# Altium footprint library SWITCH_DIP.PCBLIB: 12 footprints
Each footprint in its own frame and in the unit in brackets; x right, y up, seen from the top. Pads: shape width x height; smd on the part's side, far side on the other; paste and mask are expansions set on the pad; w line width, h text height; cw(c..) or ccw(c..) is an arc to the next point about the centre after c.
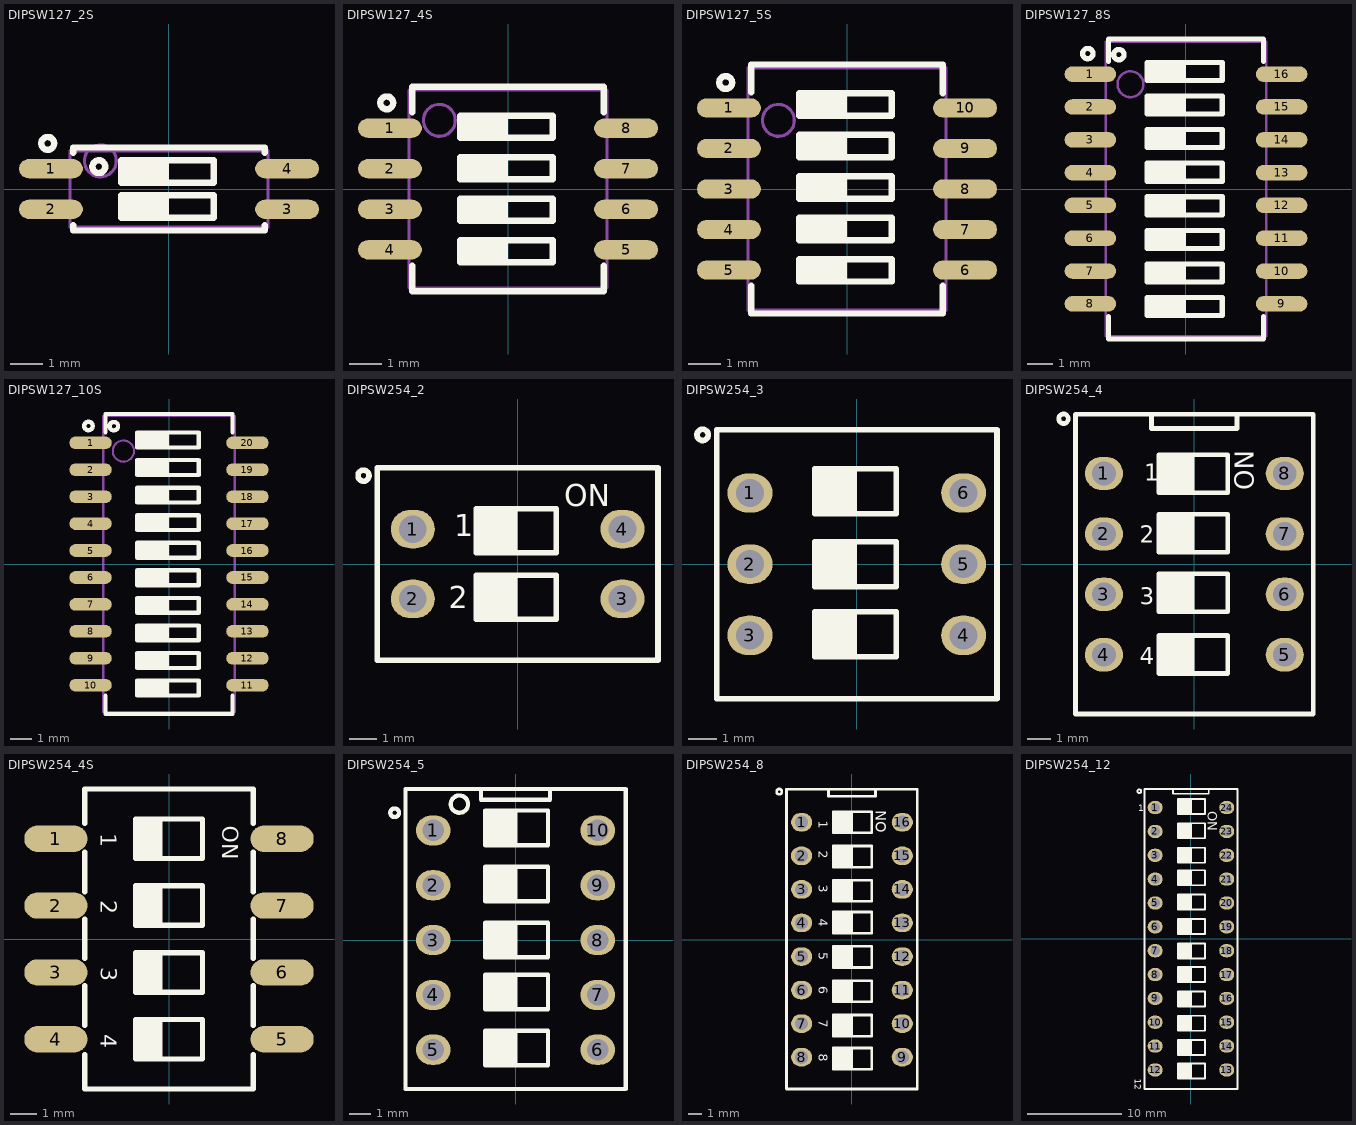
[diagram p0: the footprints below, top view; thin cyan lines are the x and y axes]

## DIPSW127_2S [mm] "SWITCH DIP 2POS, SMD, 1.27mm, 6.1X2.4mm www.ck-components.com, TDA series"
height 2.3
pads (4):
  oval 2x0.6 smd: 1(-3.7,0.635) 2(-3.7,-0.635) 3(3.7,-0.635) 4(3.7,0.635)
TopOverlay:
  circle w0.2: c-2.2,0.7 r0.2
  circle w0.2: c-3.8,1.43 r0.2
  rectangle: -1.5,0.2 0,0.8
  rectangle: -1.5,-0.8 0,-0.2
  lines w0.2: -3,-1.13 -3,-1.3 3,-1.3 3,-1.13 ; -3,1.13 -3,1.3 3,1.3 3,1.13 ; -1.5,-0.9 1.4,-0.9 1.4,-0.2 -1.5,-0.2 -1.5,-0.9 ; -1.5,0.2 -1.5,0.9 1.4,0.9 1.4,0.2 -1.5,0.2
Mechanical13:
  circle w0.1: c-2.15,0.88 r0.5
  lines w0.1: -3.1,-1.2 -3.1,1.2 3.1,1.2 3.1,-1.2 -3.1,-1.2
3D body "218-2polesLP.STP": height 2.57, standoff -0.05, extent -4.22,-1.855 4.22,1.855

## DIPSW127_4S [mm] "SWITCH DIP 4POS, SMD, 1.27mm, 6.1X6.2mm www.ck-components.com, TDA series"
height 2.3
pads (8):
  oval 2x0.6 smd: 1(-3.7,1.905) 2(-3.7,0.635) 3(-3.7,-0.635) 4(-3.7,-1.905) 5(3.7,-1.905) 6(3.7,-0.635) 7(3.7,0.635) 8(3.7,1.905)
TopOverlay:
  circle w0.2: c-3.8,2.7 r0.2
  rectangle: -1.5,1.7 0,2.3
  rectangle: -1.5,0.4 0,1
  rectangle: -1.5,-0.9 0,-0.3
  rectangle: -1.5,-2.2 0,-1.6
  lines w0.2: -3,-2.4 -3,-3.2 3,-3.2 3,-2.4 ; -3,2.4 -3,3.2 3,3.2 3,2.4 ; -1.5,-2.3 1.4,-2.3 1.4,-1.6 -1.5,-1.6 -1.5,-2.3 ; -1.5,-1 1.4,-1 1.4,-0.3 -1.5,-0.3 -1.5,-1 ; -1.5,0.3 1.4,0.3 1.4,1 -1.5,1 -1.5,0.3 ; -1.5,1.6 1.4,1.6 1.4,2.3 -1.5,2.3 -1.5,1.6
Mechanical13:
  circle w0.1: c-2.15,2.15 r0.5
  lines w0.1: -3.1,-3.1 3.1,-3.1 3.1,3.1 -3.1,3.1 -3.1,-3.1
3D body "218-4polesLP.STP": height 2.57, standoff -0.05, extent -4.22,-3.125 4.22,3.125

## DIPSW127_5S [mm] "SWITCH DIP 5POS, SMD, 1.27mm, 6.1X7.5mm www.ck-components.com, TDA series"
height 2.3
pads (10):
  oval 2x0.6 smd: 1(-3.7,2.54) 2(-3.7,1.27) 3(-3.7,0) 4(-3.7,-1.27) 5(-3.7,-2.54) 6(3.7,-2.54) 7(3.7,-1.27) 8(3.7,0) 9(3.7,1.27) 10(3.7,2.54)
TopOverlay:
  circle w0.2: c-3.8,3.335 r0.2
  rectangle: -1.5,-1.5 0,-0.9
  rectangle: -1.5,-0.2 0,0.4
  rectangle: -1.5,1.1 0,1.7
  rectangle: -1.5,2.4 0,3
  rectangle: -1.5,-2.8 0,-2.2
  lines w0.2: -3,-3.035 -3,-3.9 3,-3.9 3,-3.035 ; -3,3.035 -3,3.9 3,3.9 3,3 ; -1.5,-2.9 1.4,-2.9 1.4,-2.2 -1.5,-2.2 -1.5,-2.9 ; -1.5,-1.6 -1.5,-0.9 1.4,-0.9 1.4,-1.6 -1.5,-1.6 ; -1.5,-0.3 -1.5,0.4 1.4,0.4 1.4,-0.3 -1.5,-0.3 ; -1.5,1 -1.5,1.7 1.4,1.7 1.4,1 -1.5,1 ; -1.5,2.3 -1.5,3 1.4,3 1.4,2.3 -1.5,2.3
Mechanical13:
  circle w0.1: c-2.15,2.15 r0.5
  lines w0.1: -3.1,-3.8 3.1,-3.8 3.1,3.8 -3.1,3.8 -3.1,-3.8
3D body: height 2.3, standoff 0.1, extent -3.1,-3.8 3.1,3.8

## DIPSW127_8S [mm] "SWITCH DIP 8POS, SMD, 1.27mm, 6.1X11.3mm www.ck-components.com, TDA series"
height 2.3
pads (16):
  oval 2x0.6 smd: 1(-3.7,4.445) 2(-3.7,3.175) 3(-3.7,1.905) 4(-3.7,0.635) 5(-3.7,-0.635) 6(-3.7,-1.905) 7(-3.7,-3.175) 8(-3.7,-4.445) 9(3.7,-4.445) 10(3.7,-3.175) 11(3.7,-1.905) 12(3.7,-0.635) 13(3.7,0.635) 14(3.7,1.905) 15(3.7,3.175) 16(3.7,4.445)
TopOverlay:
  circle w0.2: c-3.8,5.24 r0.2
  circle w0.2: c-2.6,5.2 r0.2
  rectangle: -1.5,-4.8 0,-4.2
  rectangle: -1.5,-3.5 0,-2.9
  rectangle: -1.5,-2.2 0,-1.6
  rectangle: -1.5,-0.9 0,-0.3
  rectangle: -1.5,0.4 0,1
  rectangle: -1.5,1.7 0,2.3
  rectangle: -1.5,3 0,3.6
  rectangle: -1.5,4.3 0,4.9
  lines w0.2: -3,-4.94 -3,-5.805 3,-5.805 3,-4.94 ; -3,4.94 -3,5.805 3,5.805 3,4.94 ; -1.5,-4.9 -1.5,-4.2 1.4,-4.2 1.4,-4.9 -1.5,-4.9 ; -1.5,-3.6 -1.5,-2.9 1.4,-2.9 1.4,-3.6 -1.5,-3.6 ; -1.5,-2.3 -1.5,-1.6 1.4,-1.6 1.4,-2.3 -1.5,-2.3 ; -1.5,-1 -1.5,-0.3 1.4,-0.3 1.4,-1 -1.5,-1 ; -1.5,0.3 -1.5,1 1.4,1 1.4,0.3 -1.5,0.3 ; -1.5,1.6 -1.5,2.3 1.4,2.3 1.4,1.6 -1.5,1.6 ; -1.5,2.9 -1.5,3.6 1.4,3.6 1.4,2.9 -1.5,2.9 ; -1.5,4.2 -1.5,4.9 1.4,4.9 1.4,4.2 -1.5,4.2
Mechanical13:
  circle w0.1: c-2.15,4.055 r0.5
  lines w0.1: -3.1,-5.705 -3.1,5.705 3.1,5.705 3.1,-5.705 -3.1,-5.705
3D body "218-8polesLP.STP": height 2.57, standoff -0.05, extent -4.22,-5.665 4.22,5.665

## DIPSW127_10S [mm] "SWITCH DIP 10POS, SMD, 1.27mm, 6.1X13.8mm"
height 2.3
pads (20):
  oval 2x0.6 smd: 1(-3.7,5.715) 2(-3.7,4.445) 3(-3.7,3.175) 4(-3.7,1.905) 5(-3.7,0.635) 6(-3.7,-0.635) 7(-3.7,-1.905) 8(-3.7,-3.175) 9(-3.7,-4.445) 10(-3.7,-5.715) 11(3.7,-5.715) 12(3.7,-4.445) 13(3.7,-3.175) 14(3.7,-1.905) 15(3.7,-0.635) 16(3.7,0.635) 17(3.7,1.905) 18(3.7,3.175) 19(3.7,4.445) 20(3.7,5.715)
TopOverlay:
  circle w0.2: c-3.8,6.51 r0.2
  circle w0.2: c-2.6,6.5 r0.2
  rectangle: -1.5,5.6 0,6.2
  rectangle: -1.5,4.3 0,4.9
  rectangle: -1.5,3 0,3.6
  rectangle: -1.5,1.7 0,2.3
  rectangle: -1.5,0.4 0,1
  rectangle: -1.5,-0.9 0,-0.3
  rectangle: -1.5,-2.2 0,-1.6
  rectangle: -1.5,-3.5 0,-2.9
  rectangle: -1.5,-4.8 0,-4.2
  rectangle: -1.5,-6.1 0,-5.5
  lines w0.2: -3,-6.21 -3,-7.075 3,-7.075 3,-6.21 ; -3,6.21 -3,7.075 3,7.075 3,6.21 ; -1.5,-6.2 1.4,-6.2 1.4,-5.5 -1.5,-5.5 -1.5,-6.2 ; -1.5,-4.9 1.4,-4.9 1.4,-4.2 -1.5,-4.2 -1.5,-4.9 ; -1.5,-3.6 1.4,-3.6 1.4,-2.9 -1.5,-2.9 -1.5,-3.6 ; -1.5,-2.3 1.4,-2.3 1.4,-1.6 -1.5,-1.6 -1.5,-2.3 ; -1.5,-1 1.4,-1 1.4,-0.3 -1.5,-0.3 -1.5,-1 ; -1.5,0.3 1.4,0.3 1.4,1 -1.5,1 -1.5,0.3 ; -1.5,1.6 1.4,1.6 1.4,2.3 -1.5,2.3 -1.5,1.6 ; -1.5,2.9 1.4,2.9 1.4,3.6 -1.5,3.6 -1.5,2.9 ; -1.5,4.2 1.4,4.2 1.4,4.9 -1.5,4.9 -1.5,4.2 ; -1.5,5.5 1.4,5.5 1.4,6.2 -1.5,6.2 -1.5,5.5
Mechanical13:
  circle w0.1: c-2.15,5.325 r0.5
  lines w0.1: -3.1,-6.975 3.1,-6.975 3.1,6.975 -3.1,6.975 -3.1,-6.975
3D body "218-10polesLP.STP": height 2.57, standoff -0.05, extent -4.22,-6.935 4.22,6.935

## DIPSW254_2 [mm] "SWITCH DIP 2POS, THD, 2.54mm, SD02"
height 6.5
pads (4):
  oval 1.6x1.4 / inner round 1.4 / far side oval 2.2x1.4 hole 1: 1(-3.81,1.27) 2(-3.81,-1.27) 3(3.81,-1.27) 4(3.81,1.27)
TopOverlay:
  circle w0.2: c-5.6,3.21 r0.2
  rectangle: -1.5,0.4 0,2
  rectangle: -1.5,-2 0,-0.4
  lines w0.2: -5.1,-3.5 -5.1,3.5 5.1,3.5 5.1,-3.5 -5.1,-3.5 ; -1.5,-2 1.4,-2 1.4,-0.4 -1.5,-0.4 -1.5,-2 ; -1.5,0.4 1.4,0.4 1.4,2 -1.5,2 -1.5,0.4
  text "2" at -2.5,-1.6 h0.8
  text "1" at -2.3,1 h0.8
  text "ON" at 1.7,2.1 h0.8
3D body "SSGM120100.STEP": height 5, standoff -3, extent -4.704,-3.45 4.704,3.45

## DIPSW254_3 [mm] "SWITCH DIP 3POS, THD, 2.54mm, SD03"
pads (6):
  oval 1.6x1.4 / inner round 1.4 / far side oval 2.2x1.4 hole 1: 1(-3.81,2.54) 2(-3.81,0) 3(-3.81,-2.54) 4(3.81,-2.54) 5(3.81,0) 6(3.81,2.54)
TopOverlay:
  circle w0.2: c-5.5,4.61 r0.2
  rectangle: -1.5,1.8 0,3.4
  rectangle: -1.5,-0.8 0,0.8
  rectangle: -1.5,-3.3 0,-1.7
  lines w0.2: -5,-4.8 -5,4.8 5,4.8 5,-4.8 -5,-4.8 ; -1.5,-3.3 1.4,-3.3 1.4,-1.7 -1.5,-1.7 -1.5,-3.3 ; -1.5,-0.8 1.4,-0.8 1.4,0.8 -1.5,0.8 -1.5,-0.8 ; -1.5,1.8 1.4,1.8 1.4,3.4 -1.5,3.4 -1.5,1.8
3D body "SSGM130100.STEP": height 5.3, standoff -2.7, extent -4.704,-4.7 4.704,4.7

## DIPSW254_4 [mm] "SWITCH DIP 4POS, THD, 2.54mm, YL04"
height 6.5
pads (8):
  oval 1.6x1.4 / inner round 1.4 / far side oval 2.2x1.4 hole 1 mask+0.1: 1(-3.8,3.81) 2(-3.8,1.27) 3(-3.8,-1.27) 4(-3.8,-3.81) 5(3.8,-3.81) 6(3.8,-1.27) 7(3.8,1.27) 8(3.8,3.81)
TopOverlay:
  circle w0.2: c-5.5,6.11 r0.2
  rectangle: -1.5,-4.6 0,-3
  rectangle: -1.5,-2 0,-0.4
  rectangle: -1.5,0.5 0,2.1
  rectangle: -1.5,3 0,4.6
  lines w0.2: -1.8,6.3 -1.8,5.7 1.79,5.7 1.79,6.3 ; -5,-6.3 5,-6.3 5,6.3 -5,6.3 -5,-6.3 ; -1.5,-4.6 1.4,-4.6 1.4,-3 -1.5,-3 -1.5,-4.6 ; -1.5,-2 1.4,-2 1.4,-0.4 -1.5,-0.4 -1.5,-2 ; -1.5,0.5 1.4,0.5 1.4,2.1 -1.5,2.1 -1.5,0.5 ; -1.5,3 -1.5,4.6 1.4,4.6 1.4,3 -1.5,3
  text "4" at -2.3,-4.2 h0.7
  text "3" at -2.3,-1.7 h0.7
  text "2" at -2.3,0.9 h0.7
  text "1" at -2.1,3.5 h0.7
  text "ON" at 2.5,3.1 h0.8
3D body "User Library-DIP SWITCH 4 POS CTS 206.step": height 8.14, standoff -3.5, extent -4.89,-6.17 4.89,6.17

## DIPSW254_4S [mm] "SWITCH DIP 4POS, SMD, 2.54mm, CTS-219-04"
pads (8):
  oval 2.4x1 smd: 1(-4.3,3.81) 2(-4.3,1.27) 3(-4.3,-1.27) 4(-4.3,-3.81) 5(4.3,-3.81) 6(4.3,-1.27) 7(4.3,1.27) 8(4.3,3.81)
TopOverlay:
  region: -1.27,-3.06 -1.27,-4.56 -0.254,-4.56 -0.254,-3.06
  region: -1.27,-0.52 -1.27,-2.02 -0.254,-2.02 -0.254,-0.52
  region: -1.27,2.02 -1.27,0.52 -0.254,0.52 -0.254,2.02
  region: -1.27,4.56 -1.27,3.06 -0.254,3.06 -0.254,4.56
  lines w0.2: -3.2,-4.4 -3.2,-5.7 3.2,-5.7 3.2,-4.4 ; -3.2,-3.28 -3.2,-1.78 ; -3.2,-0.74 -3.2,0.76 ; -3.2,1.8 -3.2,3.3 ; -3.2,4.4 -3.2,5.7 3.2,5.7 3.2,4.4 ; 3.2,-3.28 3.2,-1.78 ; 3.2,-0.74 3.2,0.76 ; 3.2,1.8 3.2,3.3 ; -1.27,-4.56 1.27,-4.56 1.27,-3.06 -1.27,-3.06 -1.27,-4.56 ; -1.27,-2.02 1.27,-2.02 1.27,-0.52 -1.27,-0.52 -1.27,-2.02 ; -1.27,0.52 1.27,0.52 1.27,2.02 -1.27,2.02 -1.27,0.52 ; -1.27,3.06 1.27,3.06 1.27,4.56 -1.27,4.56 -1.27,3.06
  text "4" at -2.596,-3.61 h0.61
  text "3" at -2.596,-1.07 h0.61
  text "2" at -2.596,1.47 h0.61
  text "1" at -2.596,4.01 h0.61
  text "ON" at 2.021,4.31 h0.61
3D body "User Library-DM04V.step": height 4.52, standoff 0, extent -4.89,-5.55 4.89,5.55

## DIPSW254_5 [mm] "SWITCH DIP 5POS, THD, 2.54mm,"
pads (10):
  oval 1.6x1.4 / inner round 1.4 / far side oval 2.2x1.4 hole 1: 1(-3.81,5.08) 2(-3.81,2.54) 3(-3.81,0) 4(-3.81,-2.54) 5(-3.81,-5.08) 6(3.81,-5.08) 7(3.81,-2.54) 8(3.81,0) 9(3.81,2.54) 10(3.81,5.08)
TopOverlay:
  circle w0.2: c-2.6,6.3 r0.4
  circle w0.2: c-5.6,5.9 r0.2
  rectangle: -1.4,4.4 0.1,6
  rectangle: -1.4,1.8 0.1,3.4
  rectangle: -1.4,-0.8 0.1,0.8
  rectangle: -1.4,-3.2 0.1,-1.6
  rectangle: -1.4,-5.8 0.1,-4.2
  lines w0.2: -1.6,7 -1.6,6.5 1.6,6.5 1.6,7 ; -5.1,-6.9 -5.1,7 5.1,7 5.1,-6.9 -5.1,-6.9 ; -1.4,-5.8 -1.4,-4.2 1.5,-4.2 1.5,-5.8 -1.4,-5.8 ; -1.4,-3.2 -1.4,-1.6 1.5,-1.6 1.5,-3.2 -1.4,-3.2 ; -1.4,-0.8 -1.4,0.8 1.5,0.8 1.5,-0.8 -1.4,-0.8 ; -1.4,1.8 -1.4,3.4 1.5,3.4 1.5,1.8 -1.4,1.8 ; -1.4,4.4 -1.4,6 1.5,6 1.5,4.4 -1.4,4.4
3D body "User Library-DIP-10.step": height 7, standoff -3.7, extent -4.95,-6.8 4.95,6.9

## DIPSW254_8 [mm] "SWITCH DIP 8POS, THD, 2.54mm,"
height 6.5
pads (16):
  oval 1.6x1.4 / inner round 1.4 / far side oval 2.2x1.4 hole 1: 1(-3.805,8.89) 2(-3.815,6.35) 3(-3.805,3.81) 4(-3.805,1.27) 5(-3.805,-1.27) 6(-3.805,-3.81) 7(-3.805,-6.35) 8(-3.805,-8.89) 9(3.815,-8.89) 10(3.815,-6.35) 11(3.815,-3.81) 12(3.815,-1.27) 13(3.815,1.27) 14(3.815,3.81) 15(3.815,6.35) 16(3.815,8.89)
TopOverlay:
  circle w0.2: c-5.5,11.21 r0.2
  rectangle: -1.4,8.1 0.1,9.7
  rectangle: -1.4,5.5 0.1,7.1
  rectangle: -1.4,2.9 0.1,4.5
  rectangle: -1.4,0.5 0.1,2.1
  rectangle: -1.4,-2.1 0.1,-0.5
  rectangle: -1.4,-4.7 0.1,-3.1
  rectangle: -1.4,-7.3 0.1,-5.7
  rectangle: -1.4,-9.8 0.1,-8.2
  lines w0.2: -1.773,11.371 -1.773,10.863 1.783,10.863 1.783,11.371 ; -4.948,-11.3 4.958,-11.3 4.958,11.4 -4.948,11.4 -4.948,-11.3 ; -1.4,-9.8 -1.4,-8.2 1.5,-8.2 1.5,-9.8 -1.4,-9.8 ; -1.4,-7.3 -1.4,-5.7 1.5,-5.7 1.5,-7.3 -1.4,-7.3 ; -1.4,-4.7 -1.4,-3.1 1.5,-3.1 1.5,-4.7 -1.4,-4.7 ; -1.4,-2.1 -1.4,-0.5 1.5,-0.5 1.5,-2.1 -1.4,-2.1 ; -1.4,0.5 -1.4,2.1 1.5,2.1 1.5,0.5 -1.4,0.5 ; -1.4,2.9 -1.4,4.5 1.5,4.5 1.5,2.9 -1.4,2.9 ; -1.4,5.5 -1.4,7.1 1.5,7.1 1.5,5.5 -1.4,5.5 ; -1.4,8.1 -1.4,9.7 1.5,9.7 1.5,8.1 -1.4,8.1
  text "ON" at 2.6,8.1 h0.8
  text "1" at -2.51,8.991 h0.7
  text "2" at -2.51,6.727 h0.7
  text "3" at -2.51,4.167 h0.7
  text "4" at -2.51,1.606 h0.7
  text "5" at -2.51,-0.954 h0.7
  text "6" at -2.51,-3.515 h0.7
  text "7" at -2.51,-6.075 h0.7
  text "8" at -2.51,-8.636 h0.7
3D body "SW3dPS-DIP SWITCH 8 POS CTS 206.STEP": height 8.25, standoff -3.5, extent -4.9,-11.21 4.88,11.29

## DIPSW254_12 [mm] "SWITCH DIP 12POS, THD, 2.54mm,"
pads (24):
  oval 1.6x1.4 / inner round 1.4 / far side oval 2.2x1.4 hole 1: 1(-3.81,13.97) 2(-3.81,11.43) 3(-3.81,8.89) 4(-3.81,6.35) 5(-3.81,3.81) 6(-3.81,1.27) 7(-3.81,-1.27) 8(-3.81,-3.81) 9(-3.81,-6.35) 10(-3.81,-8.89) 11(-3.81,-11.43) 12(-3.81,-13.97) 13(3.81,-13.97) 14(3.81,-11.43) 15(3.81,-8.89) 16(3.81,-6.35) 17(3.81,-3.81) 18(3.81,-1.27) 19(3.81,1.27) 20(3.81,3.81) 21(3.81,6.35) 22(3.81,8.89) 23(3.81,11.43) 24(3.81,13.97)
TopOverlay:
  circle w0.2: c-5.5,15.71 r0.2
  rectangle: -1.4,13.3 0.1,14.9
  rectangle: -1.4,10.7 0.1,12.3
  rectangle: -1.4,8.1 0.1,9.7
  rectangle: -1.4,5.7 0.1,7.3
  rectangle: -1.4,3.1 0.1,4.7
  rectangle: -1.4,0.5 0.1,2.1
  rectangle: -1.4,-2.1 0.1,-0.5
  rectangle: -1.4,-4.6 0.1,-3
  rectangle: -1.4,-14.9 0.1,-13.3
  rectangle: -1.4,-12.4 0.1,-10.8
  rectangle: -1.4,-9.8 0.1,-8.2
  rectangle: -1.4,-7.2 0.1,-5.6
  lines w0.2: -1.91,15.951 -1.91,15.443 1.9,15.443 1.9,15.951 ; -4.953,-16.002 4.953,-16.002 4.953,15.951 -4.953,15.951 -4.953,-16.002 ; -1.4,-14.9 1.5,-14.9 1.5,-13.3 -1.4,-13.3 -1.4,-14.9 ; -1.4,-12.4 1.5,-12.4 1.5,-10.8 -1.4,-10.8 -1.4,-12.4 ; -1.4,-9.8 1.5,-9.8 1.5,-8.2 -1.4,-8.2 -1.4,-9.8 ; -1.4,-7.2 1.5,-7.2 1.5,-5.6 -1.4,-5.6 -1.4,-7.2 ; -1.4,-4.6 -1.4,-3 1.5,-3 1.5,-4.6 -1.4,-4.6 ; -1.4,-2.1 -1.4,-0.5 1.5,-0.5 1.5,-2.1 -1.4,-2.1 ; -1.4,0.5 -1.4,2.1 1.5,2.1 1.5,0.5 -1.4,0.5 ; -1.4,3.1 -1.4,4.7 1.5,4.7 1.5,3.1 -1.4,3.1 ; -1.4,5.7 -1.4,7.3 1.5,7.3 1.5,5.7 -1.4,5.7 ; -1.4,8.1 -1.4,9.7 1.5,9.7 1.5,8.1 -1.4,8.1 ; -1.4,10.7 -1.4,12.3 1.5,12.3 1.5,10.7 -1.4,10.7 ; -1.4,13.3 -1.4,14.9 1.5,14.9 1.5,13.3 -1.4,13.3
  text "1" at -5.61,13.57 h0.7
  text "12" at -6.01,-14.93 h0.7
  text "ON" at 1.8,13.6 h1
Mechanical1:
  circle w0.025: c3.81,13.97 r0.254
  circle w0.025: c3.81,11.43 r0.254
  circle w0.025: c3.81,8.89 r0.254
  circle w0.025: c3.81,6.35 r0.254
  circle w0.025: c-3.81,6.35 r0.254
  circle w0.025: c-3.81,8.89 r0.254
  circle w0.025: c-3.82,11.43 r0.254
  circle w0.025: c-3.81,13.97 r0.254
  circle w0.025: c-3.81,3.81 r0.254
  circle w0.025: c3.81,3.81 r0.254
  circle w0.025: c3.81,1.27 r0.254
  circle w0.025: c-3.81,1.27 r0.254
  circle w0.025: c-3.81,-1.27 r0.254
  circle w0.025: c3.81,-3.81 r0.254
  circle w0.025: c-3.81,-3.81 r0.254
3D body: height 5.59, standoff 0, extent -1.448,-13.208 1.443,-12.192
3D body: height 5.08, standoff 0.25, extent -0.737,-14.732 1.443,-13.208
3D body: height 6.35, standoff 0.25, extent -1.448,-14.732 -0.737,-13.208
3D body: height 5.59, standoff 0, extent -1.448,-10.668 1.443,-9.652
3D body: height 5.08, standoff 0.25, extent -0.737,-12.192 1.443,-10.668
3D body: height 6.35, standoff 0.25, extent -1.448,-12.192 -0.737,-10.668
3D body: height 5.59, standoff 0, extent -1.448,-8.128 1.443,-7.112
3D body: height 5.08, standoff 0.25, extent -0.737,-9.652 1.443,-8.128
3D body: height 6.35, standoff 0.25, extent -1.448,-9.652 -0.737,-8.128
3D body: height 5.59, standoff 0, extent -1.448,-5.588 1.443,-4.572
3D body: height 5.08, standoff 0.25, extent -0.737,-7.112 1.443,-5.588
3D body: height 6.35, standoff 0.25, extent -1.448,-7.112 -0.737,-5.588
3D body: height 5.59, standoff 0, extent -1.448,-3.048 1.443,-2.032
3D body: height 5.08, standoff 0.25, extent -0.737,-4.572 1.443,-3.048
3D body: height 6.35, standoff 0.25, extent -1.448,-4.572 -0.737,-3.048
3D body: height 5.59, standoff 0, extent -1.448,-0.508 1.443,0.508
3D body: height 5.08, standoff 0.25, extent -0.737,-2.032 1.443,-0.508
3D body: height 6.35, standoff 0.25, extent -1.448,-2.032 -0.737,-0.508
3D body: height 5.59, standoff 0, extent -1.448,2.032 1.443,3.048
3D body: height 5.08, standoff 0.25, extent -0.737,0.508 1.443,2.032
3D body: height 6.35, standoff 0.25, extent -1.448,0.508 -0.737,2.032
3D body: height 5.59, standoff 0, extent -1.448,4.572 1.443,5.588
3D body: height 5.08, standoff 0.25, extent -0.737,3.048 1.443,4.572
3D body: height 6.35, standoff 0.25, extent -1.448,3.048 -0.737,4.572
3D body: height 6.35, standoff 0.25, extent -1.448,10.668 -0.737,12.192
3D body: height 5.08, standoff 0.25, extent -0.737,10.668 1.443,12.192
3D body: height 5.59, standoff 0, extent -1.448,9.652 1.443,10.668
3D body: height 5.59, standoff 0, extent -1.448,7.112 1.443,8.128
3D body: height 5.59, standoff 0, extent -1.448,12.192 1.443,13.208
3D body: height 6.35, standoff 0.25, extent -1.448,5.588 -0.737,7.112
3D body: height 5.08, standoff 0.25, extent -0.737,5.588 1.443,7.112
3D body: height 6.35, standoff 0.25, extent -1.448,8.128 -0.737,9.652
3D body: height 5.08, standoff 0.25, extent -0.737,8.128 1.443,9.652
3D body: height 5.08, standoff 0.25, extent -0.737,13.208 1.443,14.732
3D body: height 6.35, standoff 0.25, extent -1.448,13.208 -0.737,14.732
3D body: height 5.59, standoff 0.25, extent 2.205,11.605 3.757,13.171
3D body: height 5.59, standoff 0.03, extent 2.28,13.716 3.697,14.524
3D body: height 5.59, standoff 0.25, extent 2.195,13.308 3.769,14.926
3D body: height 5.59, standoff 0, extent -1.448,14.732 1.443,15.443
3D body: height 0.25, standoff 0.05, extent -4.953,-16.002 4.953,15.951
3D body: height 5.59, standoff 0, extent -4.953,-16.002 4.953,15.951
3D body: height 3.81, standoff 0, extent -1.91,15.443 1.9,15.951
3D body: height 0.76, standoff 0, extent -4.063,6.097 -3.557,6.603
3D body: height 0.76, standoff 0, extent -4.063,8.637 -3.557,9.143
3D body: height 0.76, standoff 0, extent -4.073,11.177 -3.567,11.683
3D body: height 0.76, standoff 0, extent -4.063,13.717 -3.557,14.223
3D body: height 0.76, standoff 0, extent 3.557,6.097 4.063,6.603
3D body: height 0.76, standoff 0, extent 3.557,8.637 4.063,9.143
3D body: height 0.76, standoff 0, extent 3.557,11.177 4.063,11.683
3D body: height 0.76, standoff 0, extent 3.557,13.717 4.063,14.223
3D body: height 0.76, standoff 0, extent 3.557,-1.523 4.063,-1.017
3D body: height 0.76, standoff 0, extent 3.557,-4.063 4.063,-3.557
3D body: height 0.76, standoff 0, extent 3.557,1.017 4.063,1.523
3D body: height 0.76, standoff 0, extent -4.063,3.557 -3.557,4.063
3D body: height 0.76, standoff 0, extent -4.063,1.017 -3.557,1.523
3D body: height 0.76, standoff 0, extent -4.063,-1.523 -3.557,-1.017
3D body: height 0.76, standoff 0, extent -4.063,-4.063 -3.557,-3.557
3D body: height 0.76, standoff 0, extent -4.063,-6.603 -3.557,-6.097
3D body: height 0.76, standoff 0, extent -4.063,-9.143 -3.557,-8.637
3D body: height 0.76, standoff 0, extent -4.063,-11.683 -3.557,-11.177
3D body: height 0.76, standoff 0, extent -4.063,-14.223 -3.557,-13.717
3D body: height 0.76, standoff 0, extent 3.557,-14.223 4.063,-13.717
3D body: height 0.76, standoff 0, extent 3.557,-11.683 4.063,-11.177
3D body: height 0.76, standoff 0, extent 3.557,-9.143 4.063,-8.637
3D body: height 0.76, standoff 0, extent 3.557,-6.603 4.063,-6.097